# EAGLE library part CONN_HDMI_MINI (library GPLIB_CONN)
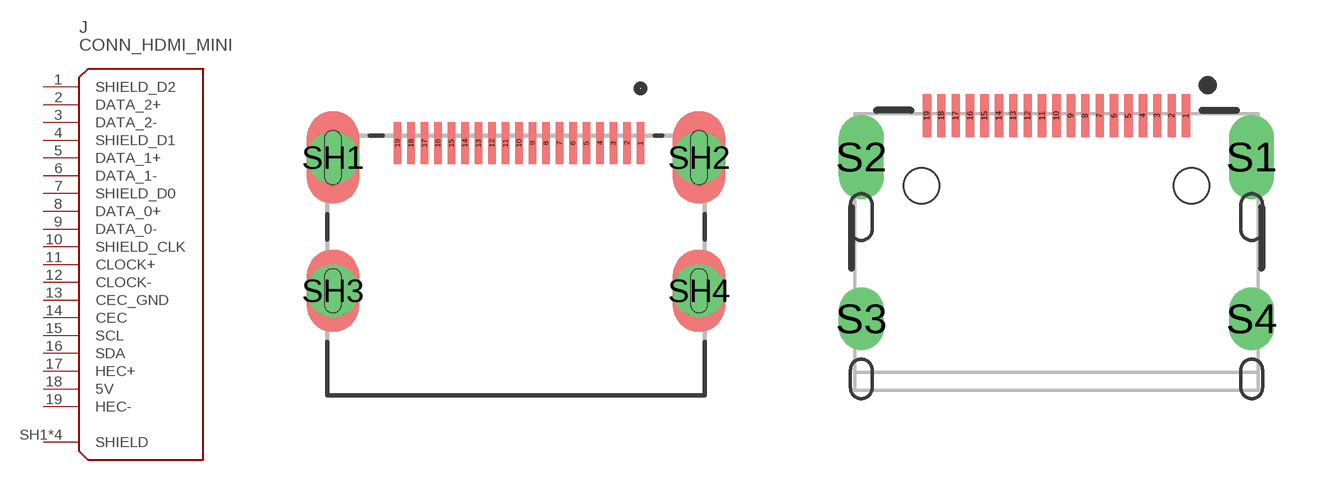
[diagram p58: symbol with the pads of CONN_HDMI_MINI_TE_2013978-2; footprints CONN_HDMI_MINI_TE_2013978-2, CONN_HDMI_MINI_A71-05H4-111N1]

Designator prefix J

## CONN_HDMI_MINI  [CONN_HDMI_MINI_TE_2013978-2]
1  SHIELD_D2  pas
2  DATA_2+  pas
3  DATA_2-  pas
4  SHIELD_D1  pas
5  DATA_1+  pas
6  DATA_1-  pas
7  SHIELD_D0  pas
8  DATA_0+  pas
9  DATA_0-  pas
10  SHIELD_CLK  pas
11  CLOCK+  pas
12  CLOCK-  pas
13  CEC_GND  pas
14  CEC  pas
15  SCL  pas
16  SDA  pas
17  HEC+  pas
18  5V  pas
19  HEC-  pas
SH1  SHIELD  pas
SH2  SHIELD  pas
SH3  SHIELD  pas
SH4  SHIELD  pas

## CONN_HDMI_MINI_A71-05H4-111N1  [CONN_HDMI_MINI_A71-05H4-111N1]
1  SHIELD_D2  pas
2  DATA_2+  pas
3  DATA_2-  pas
4  SHIELD_D1  pas
5  DATA_1+  pas
6  DATA_1-  pas
7  SHIELD_D0  pas
8  DATA_0+  pas
9  DATA_0-  pas
10  SHIELD_CLK  pas
11  CLOCK+  pas
12  CLOCK-  pas
13  CEC_GND  pas
14  CEC  pas
15  SCL  pas
16  SDA  pas
17  HEC+  pas
18  5V  pas
19  HEC-  pas
S1  SHIELD  pas
S2  SHIELD  pas
S3  SHIELD  pas
S4  SHIELD  pas

## CONN_HDMI_MINIHDC12-F1F1-2000-A  [CONN_HDMI_MINI_HDC12-F1F1-2000-A]
P$1  SHIELD_D2  pas
P$2  DATA_2+  pas
P$3  DATA_2-  pas
P$4  SHIELD_D1  pas
P$5  DATA_1+  pas
P$6  DATA_1-  pas
P$7  SHIELD_D0  pas
P$8  DATA_0+  pas
P$9  DATA_0-  pas
P$10  SHIELD_CLK  pas
P$11  CLOCK+  pas
P$12  CLOCK-  pas
P$13  CEC_GND  pas
P$14  CEC  pas
P$15  SCL  pas
P$16  SDA  pas
P$17  HEC+  pas
P$18  5V  pas
P$19  HEC-  pas
P$20  SHIELD  pas
P$21  SHIELD  pas
P$22  SHIELD  pas
P$23  SHIELD  pas

## Footprint CONN_HDMI_MINI_TE_2013978-2 (pad centres in mm)
smd 0.22 x 1.25: 1 3.685,3.625; 2 3.285,3.625; 3 2.885,3.625; 4 2.485,3.625; 5 2.085,3.625; 6 1.685,3.625; 7 1.285,3.625; 8 0.885,3.625; 9 0.485,3.625; 10 0.085,3.625; 11 -0.315,3.625; 12 -0.715,3.625; 13 -1.115,3.625; 14 -1.515,3.625; 15 -1.915,3.625; 16 -2.315,3.625; 17 -2.715,3.625; 18 -3.115,3.625; 19 -3.515,3.625
drill 0.48 pad 1.55: SH1 -5.425,3.2; SH2 5.425,3.2; SH3 -5.425,-0.75; SH4 5.425,-0.75

## Footprint CONN_HDMI_MINI_A71-05H4-111N1 (pad centres in mm)
smd 0.23 x 1.2: 1 3.6,2.825; 2 3.2,2.825; 3 2.8,2.825; 4 2.4,2.825; 5 2,2.825; 6 1.6,2.825; 7 1.2,2.825; 8 0.8,2.825; 9 0.4,2.825; 10 0,2.825; 11 -0.4,2.825; 12 -0.8,2.825; 13 -1.2,2.825; 14 -1.6,2.825; 15 -2,2.825; 16 -2.4,2.825; 17 -2.8,2.825; 18 -3.2,2.825; 19 -3.6,2.825
drill 0.7 pad 1.25 slot 1.8 rotated 90: S1 5.425,1.675; S2 -5.425,1.675
drill 0.7 pad 1.25 slot 1.2 rotated 90: S3 -5.425,-2.825; S4 5.425,-2.825
hole 0.99 at -3.75,0.875
hole 0.99 at 3.75,0.875

## Footprint CONN_HDMI_MINI_HDC12-F1F1-2000-A (pad centres in mm)
smd 0.27 x 1.35: P$1 3.6,-0.675; P$2 3.2,-0.675; P$3 2.8,-0.675; P$4 2.4,-0.675; P$5 2,-0.675; P$6 1.6,-0.675; P$7 1.2,-0.675; P$8 0.8,-0.675; P$9 0.4,-0.675; P$10 0,-0.675; P$11 -0.4,-0.675; P$12 -0.8,-0.675; P$13 -1.2,-0.675; P$14 -1.6,-0.675; P$15 -2,-0.675; P$16 -2.4,-0.675; P$17 -2.8,-0.675; P$18 -3.2,-0.675; P$19 -3.6,-0.675
drill 0.55 slot 1.55 rotated 90: P$20 -5.425,-1.95; P$21 5.425,-1.95
drill 0.55 slot 1.15 rotated 90: P$22 -5.425,-6.45; P$23 5.425,-6.45
hole 0.9 at -3.75,-2.6
hole 0.9 at 3.75,-2.6